# EAGLE library part MEGA8L-DEV (library SRI-MEGA8L)
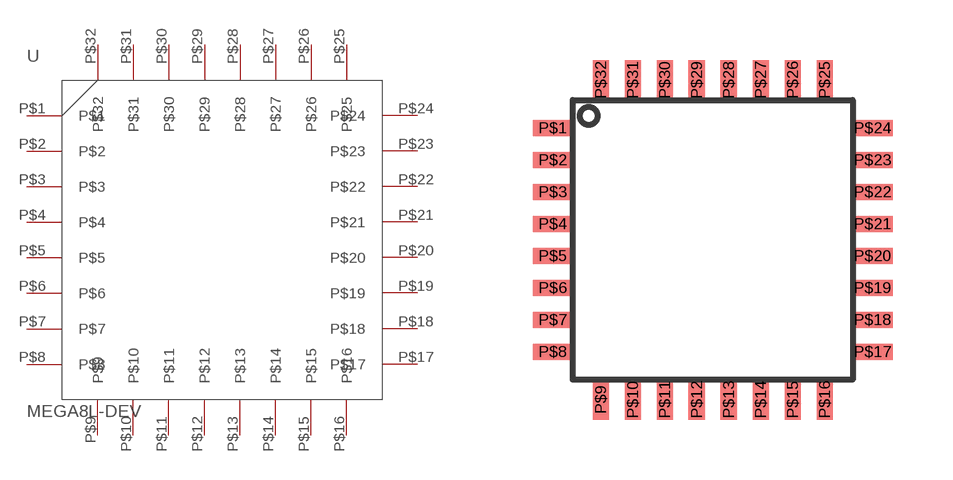
[diagram p0: symbol with the pads of TQFP-MEGA8L; footprint TQFP-MEGA8L]

Designator prefix -

## MEGA8L-DEV  [TQFP-MEGA8L]
P$1  P$1
P$2  P$2
P$3  P$3
P$4  P$4
P$5  P$5
P$6  P$6
P$7  P$7
P$8  P$8
P$9  P$9
P$10  P$10
P$11  P$11
P$12  P$12
P$13  P$13
P$14  P$14
P$15  P$15
P$16  P$16
P$17  P$17
P$18  P$18
P$19  P$19
P$20  P$20
P$21  P$21
P$22  P$22
P$23  P$23
P$24  P$24
P$25  P$25
P$26  P$26
P$27  P$27
P$28  P$28
P$29  P$29
P$30  P$30
P$31  P$31
P$32  P$32

## Footprint TQFP-MEGA8L (pad centres in mm)
smd 1 x 0.4: P$1 1.2,8.2; P$2 1.2,7.4; P$3 1.2,6.6; P$4 1.2,5.8; P$5 1.2,5; P$6 1.2,4.2; P$7 1.2,3.4; P$8 1.2,2.6; P$17 9.2,2.6; P$18 9.2,3.4; P$19 9.2,4.2; P$20 9.2,5; P$21 9.2,5.8; P$22 9.2,6.6; P$23 9.2,7.4; P$24 9.2,8.2
smd 0.4 x 1: P$9 2.4,1.4; P$10 3.2,1.4; P$11 4,1.4; P$12 4.8,1.4; P$13 5.6,1.4; P$14 6.4,1.4; P$15 7.2,1.4; P$16 8,1.4; P$25 8,9.4; P$26 7.2,9.4; P$27 6.4,9.4; P$28 5.6,9.4; P$29 4.8,9.4; P$30 4,9.4; P$31 3.2,9.4; P$32 2.4,9.4